# EAGLE library part HD-A108 (library DISPLAY_HP)
LED DISPLAY + - 1 character, decimal point right
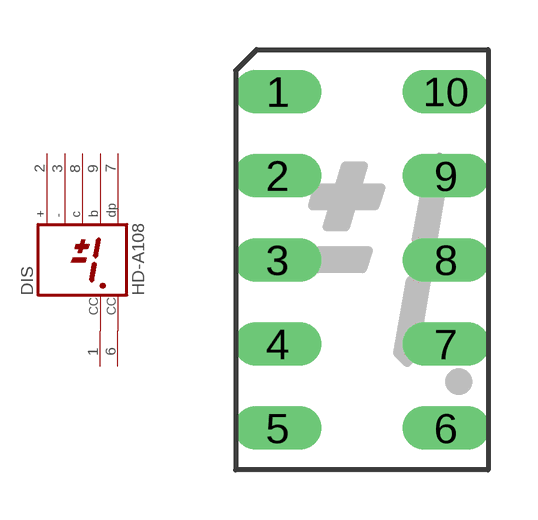
[diagram p12: symbol with the pads of HDSP-C; footprint HDSP-C]

Designator prefix DIS

## HD-A108  [HDSP-C]
1  CC  pas
2  +  pas
3  -  pas
6  CC  pas
7  DP  pas
8  C  pas
9  B  pas

## Footprint HDSP-C (pad centres in mm)
LED DISPLAY 8-mm + - 1/2 character, decimal point right
drill 0.813 long: 1 -2.54,5.08; 2 -2.54,2.54; 3 -2.54,0; 4 -2.54,-2.54; 5 -2.54,-5.08; 6 2.54,-5.08; 7 2.54,-2.54; 8 2.54,0; 9 2.54,2.54; 10 2.54,5.08